# Altium schematic symbol library kmilo17pet-TI_LDO_400_7500.SchLib: 1409 symbols (part 58 of 60)
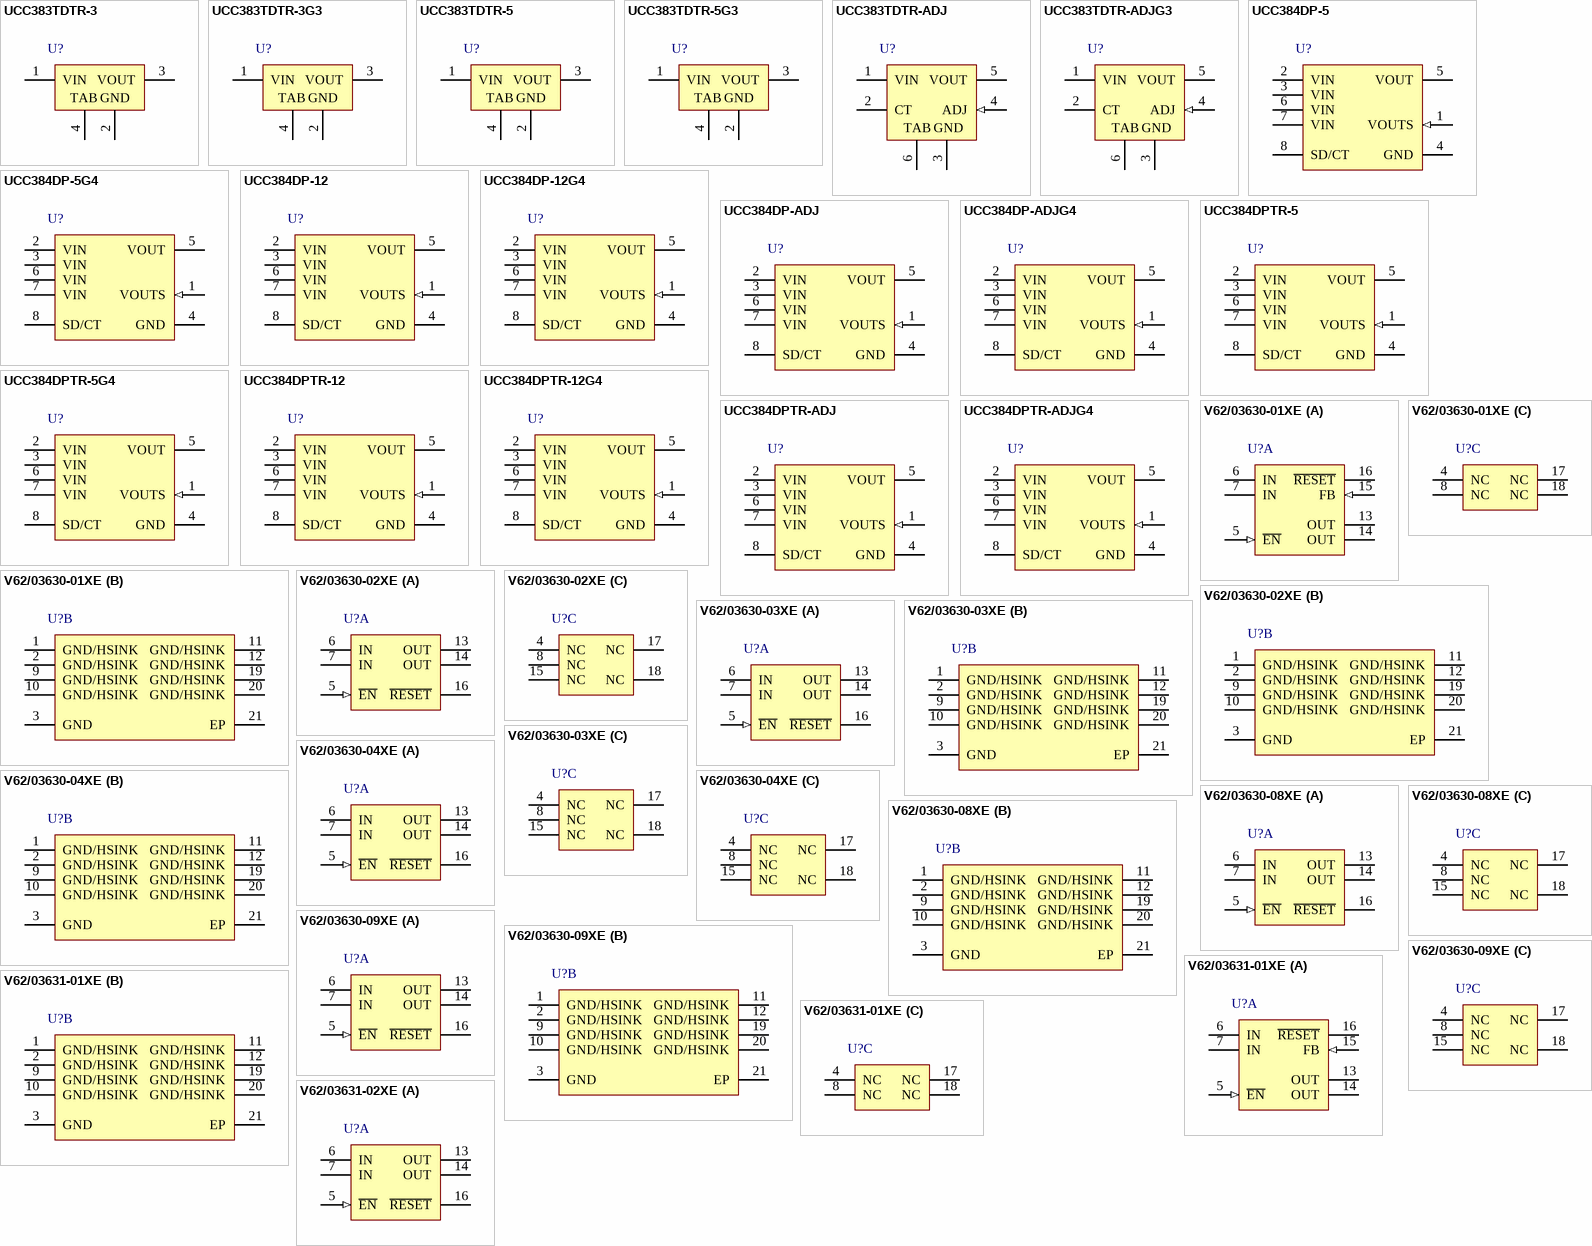
[diagram p107: symbols UCC383TDTR-3 to V62/03631-02XE]

## UCC384DP-12
designator U?
Single Output LDO, 500 mA, Fixed -12 V Output, -3.2 to -15 V Input, with Low IQ, 8-pin SOIC (D), 0 to 70 degC, Green (RoHS & no Sb/Br); Manufacturer: Texas Instruments; PartNumber: UCC384DP-12; Accuracy(%): 2.5; Iout(Max)(A): 0.5; Iq(Typ)(mA): 0.2; SubFamily: Single Channel LDO; Vdo(Typ)(mV): 150; DatasheetVersion: SLUS234D; PackageVersion: 4040047-3/M; PackageReference: D8; PackageDescription: 8-Pin Plastic Small Outline, Body 4.9 x 3.9 mm, Pitch 1.27 mm; Supplier 1: Digi-Key; Supplier Part Number 1: 296-8162-5-ND; Supplier 2: Newark; Supplier Part Number 2: 77C2505; Supplier 3: Mouser; Supplier Part Number 3: 595-UCC384DP-12; Eco-Plan: Green (RoHS & no Sb/Br); Fixed Output Options(V): -12; Vin(Max)(V): -15; Vin(Min)(V): -3.2; Vout Adj(Max)(V): -12; Vout Adj(Min)(V): -12; Mounting Technology: Surface Mount; Code_JEDEC: MS-012; ComponentLink1Description: Manufacturer URL; ComponentLink1URL: http://www.ti.com/; ComponentLink2Description: Datasheet; ComponentLink2URL: http://www.ti.com/general/docs/lit/getliterature.tsp?genericPartNumber=UCC384-12&fileType=pdf; ComponentLink3Description: Package Specification; ComponentLink3URL: http://www.ti.com/litv/pdf/msoi002j
footprint TI-D8_N (SOIC, 8-Leads, Body 4.9x3.9mm, Pitch 1.27mm, IPC Medium Density)
footprint TI-D8_L (SOIC, 8-Leads, Body 4.9x3.9mm, Pitch 1.27mm, IPC High Density)
footprint TI-D8_M (SOIC, 8-Leads, Body 4.9x3.9mm, Pitch 1.27mm, IPC Low Density)
pins: 1 VOUTS (in) "This is the feedback pin for sensing the output of the regulator. For the UCC384-5 and UCC384-12 versions, VOUTS can be connected directly to VOUT. If the load is placed at a considerable distance from the regulator, the (See Datasheet)", 2 VIN (power) "This is the negative input supply. Bypass this pin to GND with at least 1 µF of low ESR or ESL capacitance.", 3 VIN (power) "This is the negative input supply. Bypass this pin to GND with at least 1 µF of low ESR or ESL capacitance.", 4 GND (power) "This is the low noise ground reference input. All voltages are measured with respect to the GND pin.", 5 VOUT (power) "Regulated negative-output voltage. A single 4.7-µF capacitor should be connected between this pin and GND. Smaller value capacitors can be used for light loads, but this degrades the load-step performance of the regulator.", 6 VIN (power) "This is the negative input supply. Bypass this pin to GND with at least 1 µF of low ESR or ESL capacitance.", 7 VIN (power) "This is the negative input supply. Bypass this pin to GND with at least 1 µF of low ESR or ESL capacitance.", 8 SD/CT "This is the shutdown pin and also the short-circuit timing pin. Pulling this pin more positive than -0.7 V puts the circuit in a low-current shutdown mode. Placing a timing capacitor between this pin and GND sets the (See Datasheet)"

## UCC384DP-12G4
designator U?
Single Output LDO, 500 mA, Fixed -12 V Output, -3.2 to -15 V Input, with Low IQ, 8-pin SOIC (D), 0 to 70 degC, Green (RoHS & no Sb/Br); Manufacturer: Texas Instruments; PartNumber: UCC384DP-12G4; Accuracy(%): 2.5; Iout(Max)(A): 0.5; Iq(Typ)(mA): 0.2; SubFamily: Single Channel LDO; Vdo(Typ)(mV): 150; DatasheetVersion: SLUS234D; PackageVersion: 4040047-3/M; PackageReference: D8; PackageDescription: 8-Pin Plastic Small Outline, Body 4.9 x 3.9 mm, Pitch 1.27 mm; Supplier 1: Digi-Key; Supplier Part Number 1: UCC384DP-12G4-ND; Supplier 2: Mouser; Supplier Part Number 2: 595-UCC384DP-12G4; Eco-Plan: Green (RoHS & no Sb/Br); Fixed Output Options(V): -12; Vin(Max)(V): -15; Vin(Min)(V): -3.2; Vout Adj(Max)(V): -12; Vout Adj(Min)(V): -12; Mounting Technology: Surface Mount; Code_JEDEC: MS-012; ComponentLink1Description: Manufacturer URL; ComponentLink1URL: http://www.ti.com/; ComponentLink2Description: Datasheet; ComponentLink2URL: http://www.ti.com/general/docs/lit/getliterature.tsp?genericPartNumber=UCC384-12&fileType=pdf; ComponentLink3Description: Package Specification; ComponentLink3URL: http://www.ti.com/litv/pdf/msoi002j
footprint TI-D8_N (SOIC, 8-Leads, Body 4.9x3.9mm, Pitch 1.27mm, IPC Medium Density)
footprint TI-D8_L (SOIC, 8-Leads, Body 4.9x3.9mm, Pitch 1.27mm, IPC High Density)
footprint TI-D8_M (SOIC, 8-Leads, Body 4.9x3.9mm, Pitch 1.27mm, IPC Low Density)
pins: 1 VOUTS (in) "This is the feedback pin for sensing the output of the regulator. For the UCC384-5 and UCC384-12 versions, VOUTS can be connected directly to VOUT. If the load is placed at a considerable distance from the regulator, the (See Datasheet)", 2 VIN (power) "This is the negative input supply. Bypass this pin to GND with at least 1 µF of low ESR or ESL capacitance.", 3 VIN (power) "This is the negative input supply. Bypass this pin to GND with at least 1 µF of low ESR or ESL capacitance.", 4 GND (power) "This is the low noise ground reference input. All voltages are measured with respect to the GND pin.", 5 VOUT (power) "Regulated negative-output voltage. A single 4.7-µF capacitor should be connected between this pin and GND. Smaller value capacitors can be used for light loads, but this degrades the load-step performance of the regulator.", 6 VIN (power) "This is the negative input supply. Bypass this pin to GND with at least 1 µF of low ESR or ESL capacitance.", 7 VIN (power) "This is the negative input supply. Bypass this pin to GND with at least 1 µF of low ESR or ESL capacitance.", 8 SD/CT "This is the shutdown pin and also the short-circuit timing pin. Pulling this pin more positive than -0.7 V puts the circuit in a low-current shutdown mode. Placing a timing capacitor between this pin and GND sets the (See Datasheet)"

## UCC384DP-ADJ
designator U?
Single Output LDO, 500 mA, Adjustable -1.25 to -15 V Output, -3.2 to -15 V Input, with Low IQ, 8-pin SOIC (D), 0 to 70 degC, Green (RoHS & no Sb/Br); Manufacturer: Texas Instruments; PartNumber: UCC384DP-ADJ; Accuracy(%): 2.5; Iout(Max)(A): 0.5; Iq(Typ)(mA): 0.2; SubFamily: Single Channel LDO; Vdo(Typ)(mV): 250; DatasheetVersion: SLUS234D; PackageVersion: 4040047-3/M; PackageReference: D8; PackageDescription: 8-Pin Plastic Small Outline, Body 4.9 x 3.9 mm, Pitch 1.27 mm; Supplier 1: Digi-Key; Supplier Part Number 1: 296-8164-5-ND; Supplier 2: Newark; Supplier Part Number 2: 77C2504; Supplier 3: Mouser; Supplier Part Number 3: 595-UCC384DP-ADJ; Eco-Plan: Green (RoHS & no Sb/Br); Vin(Max)(V): -15; Vin(Min)(V): -3.2; Vout Adj(Max)(V): -15; Vout Adj(Min)(V): -1.25; Mounting Technology: Surface Mount; Code_JEDEC: MS-012; ComponentLink1Description: Manufacturer URL; ComponentLink1URL: http://www.ti.com/; ComponentLink2Description: Datasheet; ComponentLink2URL: http://www.ti.com/general/docs/lit/getliterature.tsp?genericPartNumber=UCC384-ADJ&fileType=pdf; ComponentLink3Description: Package Specification; ComponentLink3URL: http://www.ti.com/litv/pdf/msoi002j
footprint TI-D8_N (SOIC, 8-Leads, Body 4.9x3.9mm, Pitch 1.27mm, IPC Medium Density)
footprint TI-D8_L (SOIC, 8-Leads, Body 4.9x3.9mm, Pitch 1.27mm, IPC High Density)
footprint TI-D8_M (SOIC, 8-Leads, Body 4.9x3.9mm, Pitch 1.27mm, IPC Low Density)
pins: 1 VOUTS (in) "This is the feedback pin for sensing the output of the regulator. For the UCC384-5 and UCC384-12 versions, VOUTS can be connected directly to VOUT. If the load is placed at a considerable distance from the regulator, the (See Datasheet)", 2 VIN (power) "This is the negative input supply. Bypass this pin to GND with at least 1 µF of low ESR or ESL capacitance.", 3 VIN (power) "This is the negative input supply. Bypass this pin to GND with at least 1 µF of low ESR or ESL capacitance.", 4 GND (power) "This is the low noise ground reference input. All voltages are measured with respect to the GND pin.", 5 VOUT (power) "Regulated negative-output voltage. A single 4.7-µF capacitor should be connected between this pin and GND. Smaller value capacitors can be used for light loads, but this degrades the load-step performance of the regulator.", 6 VIN (power) "This is the negative input supply. Bypass this pin to GND with at least 1 µF of low ESR or ESL capacitance.", 7 VIN (power) "This is the negative input supply. Bypass this pin to GND with at least 1 µF of low ESR or ESL capacitance.", 8 SD/CT "This is the shutdown pin and also the short-circuit timing pin. Pulling this pin more positive than -0.7 V puts the circuit in a low-current shutdown mode. Placing a timing capacitor between this pin and GND sets the (See Datasheet)"

## UCC384DP-ADJG4
designator U?
Single Output LDO, 500 mA, Adjustable -1.25 to -15 V Output, -3.2 to -15 V Input, with Low IQ, 8-pin SOIC (D), 0 to 70 degC, Green (RoHS & no Sb/Br); Manufacturer: Texas Instruments; PartNumber: UCC384DP-ADJG4; Accuracy(%): 2.5; Iout(Max)(A): 0.5; Iq(Typ)(mA): 0.2; SubFamily: Single Channel LDO; Vdo(Typ)(mV): 250; DatasheetVersion: SLUS234D; PackageVersion: 4040047-3/M; PackageReference: D8; PackageDescription: 8-Pin Plastic Small Outline, Body 4.9 x 3.9 mm, Pitch 1.27 mm; Supplier 1: Digi-Key; Supplier Part Number 1: UCC384DP-ADJG4-ND; Supplier 2: Farnell; Supplier Part Number 2: 1207250; Supplier 3: Newark; Supplier Part Number 3: 24M8878; Supplier 4: Newark; Supplier Part Number 4: 54K2168; Supplier 5: Mouser; Supplier Part Number 5: 595-UCC384DP-ADJG4; Eco-Plan: Green (RoHS & no Sb/Br); Vin(Max)(V): -15; Vin(Min)(V): -3.2; Vout Adj(Max)(V): -15; Vout Adj(Min)(V): -1.25; Mounting Technology: Surface Mount; Code_JEDEC: MS-012; ComponentLink1Description: Manufacturer URL; ComponentLink1URL: http://www.ti.com/; ComponentLink2Description: Datasheet; ComponentLink2URL: http://www.ti.com/general/docs/lit/getliterature.tsp?genericPartNumber=UCC384-ADJ&fileType=pdf; ComponentLink3Description: Package Specification; ComponentLink3URL: http://www.ti.com/litv/pdf/msoi002j
footprint TI-D8_N (SOIC, 8-Leads, Body 4.9x3.9mm, Pitch 1.27mm, IPC Medium Density)
footprint TI-D8_L (SOIC, 8-Leads, Body 4.9x3.9mm, Pitch 1.27mm, IPC High Density)
footprint TI-D8_M (SOIC, 8-Leads, Body 4.9x3.9mm, Pitch 1.27mm, IPC Low Density)
pins: 1 VOUTS (in) "This is the feedback pin for sensing the output of the regulator. For the UCC384-5 and UCC384-12 versions, VOUTS can be connected directly to VOUT. If the load is placed at a considerable distance from the regulator, the (See Datasheet)", 2 VIN (power) "This is the negative input supply. Bypass this pin to GND with at least 1 µF of low ESR or ESL capacitance.", 3 VIN (power) "This is the negative input supply. Bypass this pin to GND with at least 1 µF of low ESR or ESL capacitance.", 4 GND (power) "This is the low noise ground reference input. All voltages are measured with respect to the GND pin.", 5 VOUT (power) "Regulated negative-output voltage. A single 4.7-µF capacitor should be connected between this pin and GND. Smaller value capacitors can be used for light loads, but this degrades the load-step performance of the regulator.", 6 VIN (power) "This is the negative input supply. Bypass this pin to GND with at least 1 µF of low ESR or ESL capacitance.", 7 VIN (power) "This is the negative input supply. Bypass this pin to GND with at least 1 µF of low ESR or ESL capacitance.", 8 SD/CT "This is the shutdown pin and also the short-circuit timing pin. Pulling this pin more positive than -0.7 V puts the circuit in a low-current shutdown mode. Placing a timing capacitor between this pin and GND sets the (See Datasheet)"

## UCC384DPTR-5
designator U?
Single Output LDO, 500 mA, Fixed -5 V Output, -3.2 to -15 V Input, with Low IQ, 8-pin SOIC (D), 0 to 70 degC, Green (RoHS & no Sb/Br); Manufacturer: Texas Instruments; PartNumber: UCC384DPTR-5; Accuracy(%): 2.5; Iout(Max)(A): 0.5; Iq(Typ)(mA): 0.2; SubFamily: Single Channel LDO; Vdo(Typ)(mV): 200; DatasheetVersion: SLUS234D; PackageVersion: 4040047-3/M; PackageReference: D8; PackageDescription: 8-Pin Plastic Small Outline, Body 4.9 x 3.9 mm, Pitch 1.27 mm; Supplier 1: Digi-Key; Supplier Part Number 1: UCC384DPTR-5-ND; Supplier 2: Newark; Supplier Part Number 2: 77C2509; Supplier 3: Mouser; Supplier Part Number 3: 595-UCC384DPTR-5; Eco-Plan: Green (RoHS & no Sb/Br); Fixed Output Options(V): -5; Vin(Max)(V): -15; Vin(Min)(V): -3.2; Vout Adj(Max)(V): -5; Vout Adj(Min)(V): -5; Mounting Technology: Surface Mount; Code_JEDEC: MS-012; ComponentLink1Description: Manufacturer URL; ComponentLink1URL: http://www.ti.com/; ComponentLink2Description: Datasheet; ComponentLink2URL: http://www.ti.com/general/docs/lit/getliterature.tsp?genericPartNumber=UCC384-5&fileType=pdf; ComponentLink3Description: Package Specification; ComponentLink3URL: http://www.ti.com/litv/pdf/msoi002j
footprint TI-D8_N (SOIC, 8-Leads, Body 4.9x3.9mm, Pitch 1.27mm, IPC Medium Density)
footprint TI-D8_L (SOIC, 8-Leads, Body 4.9x3.9mm, Pitch 1.27mm, IPC High Density)
footprint TI-D8_M (SOIC, 8-Leads, Body 4.9x3.9mm, Pitch 1.27mm, IPC Low Density)
pins: 1 VOUTS (in) "This is the feedback pin for sensing the output of the regulator. For the UCC384-5 and UCC384-12 versions, VOUTS can be connected directly to VOUT. If the load is placed at a considerable distance from the regulator, the (See Datasheet)", 2 VIN (power) "This is the negative input supply. Bypass this pin to GND with at least 1 µF of low ESR or ESL capacitance.", 3 VIN (power) "This is the negative input supply. Bypass this pin to GND with at least 1 µF of low ESR or ESL capacitance.", 4 GND (power) "This is the low noise ground reference input. All voltages are measured with respect to the GND pin.", 5 VOUT (power) "Regulated negative-output voltage. A single 4.7-µF capacitor should be connected between this pin and GND. Smaller value capacitors can be used for light loads, but this degrades the load-step performance of the regulator.", 6 VIN (power) "This is the negative input supply. Bypass this pin to GND with at least 1 µF of low ESR or ESL capacitance.", 7 VIN (power) "This is the negative input supply. Bypass this pin to GND with at least 1 µF of low ESR or ESL capacitance.", 8 SD/CT "This is the shutdown pin and also the short-circuit timing pin. Pulling this pin more positive than -0.7 V puts the circuit in a low-current shutdown mode. Placing a timing capacitor between this pin and GND sets the (See Datasheet)"

## UCC384DPTR-5G4
designator U?
Single Output LDO, 500 mA, Fixed -5 V Output, -3.2 to -15 V Input, with Low IQ, 8-pin SOIC (D), 0 to 70 degC, Green (RoHS & no Sb/Br); Manufacturer: Texas Instruments; PartNumber: UCC384DPTR-5G4; Accuracy(%): 2.5; Iout(Max)(A): 0.5; Iq(Typ)(mA): 0.2; SubFamily: Single Channel LDO; Vdo(Typ)(mV): 200; DatasheetVersion: SLUS234D; PackageVersion: 4040047-3/M; PackageReference: D8; PackageDescription: 8-Pin Plastic Small Outline, Body 4.9 x 3.9 mm, Pitch 1.27 mm; Supplier 1: Digi-Key; Supplier Part Number 1: UCC384DPTR-5G4-ND; Supplier 2: Mouser; Supplier Part Number 2: 595-UCC384DPTR-5G4; Eco-Plan: Green (RoHS & no Sb/Br); Fixed Output Options(V): -5; Vin(Max)(V): -15; Vin(Min)(V): -3.2; Vout Adj(Max)(V): -5; Vout Adj(Min)(V): -5; Mounting Technology: Surface Mount; Code_JEDEC: MS-012; ComponentLink1Description: Manufacturer URL; ComponentLink1URL: http://www.ti.com/; ComponentLink2Description: Datasheet; ComponentLink2URL: http://www.ti.com/general/docs/lit/getliterature.tsp?genericPartNumber=UCC384-5&fileType=pdf; ComponentLink3Description: Package Specification; ComponentLink3URL: http://www.ti.com/litv/pdf/msoi002j
footprint TI-D8_N (SOIC, 8-Leads, Body 4.9x3.9mm, Pitch 1.27mm, IPC Medium Density)
footprint TI-D8_L (SOIC, 8-Leads, Body 4.9x3.9mm, Pitch 1.27mm, IPC High Density)
footprint TI-D8_M (SOIC, 8-Leads, Body 4.9x3.9mm, Pitch 1.27mm, IPC Low Density)
pins: 1 VOUTS (in) "This is the feedback pin for sensing the output of the regulator. For the UCC384-5 and UCC384-12 versions, VOUTS can be connected directly to VOUT. If the load is placed at a considerable distance from the regulator, the (See Datasheet)", 2 VIN (power) "This is the negative input supply. Bypass this pin to GND with at least 1 µF of low ESR or ESL capacitance.", 3 VIN (power) "This is the negative input supply. Bypass this pin to GND with at least 1 µF of low ESR or ESL capacitance.", 4 GND (power) "This is the low noise ground reference input. All voltages are measured with respect to the GND pin.", 5 VOUT (power) "Regulated negative-output voltage. A single 4.7-µF capacitor should be connected between this pin and GND. Smaller value capacitors can be used for light loads, but this degrades the load-step performance of the regulator.", 6 VIN (power) "This is the negative input supply. Bypass this pin to GND with at least 1 µF of low ESR or ESL capacitance.", 7 VIN (power) "This is the negative input supply. Bypass this pin to GND with at least 1 µF of low ESR or ESL capacitance.", 8 SD/CT "This is the shutdown pin and also the short-circuit timing pin. Pulling this pin more positive than -0.7 V puts the circuit in a low-current shutdown mode. Placing a timing capacitor between this pin and GND sets the (See Datasheet)"

## UCC384DPTR-12
designator U?
Single Output LDO, 500 mA, Fixed -12 V Output, -3.2 to -15 V Input, with Low IQ, 8-pin SOIC (D), 0 to 70 degC, Green (RoHS & no Sb/Br); Manufacturer: Texas Instruments; PartNumber: UCC384DPTR-12; Accuracy(%): 2.5; Iout(Max)(A): 0.5; Iq(Typ)(mA): 0.2; SubFamily: Single Channel LDO; Vdo(Typ)(mV): 150; DatasheetVersion: SLUS234D; PackageVersion: 4040047-3/M; PackageReference: D8; PackageDescription: 8-Pin Plastic Small Outline, Body 4.9 x 3.9 mm, Pitch 1.27 mm; Supplier 1: Digi-Key; Supplier Part Number 1: UCC384DPTR-12-ND; Supplier 2: Mouser; Supplier Part Number 2: 595-UCC384DPTR-12; Eco-Plan: Green (RoHS & no Sb/Br); Fixed Output Options(V): -12; Vin(Max)(V): -15; Vin(Min)(V): -3.2; Vout Adj(Max)(V): -12; Vout Adj(Min)(V): -12; Mounting Technology: Surface Mount; Code_JEDEC: MS-012; ComponentLink1Description: Manufacturer URL; ComponentLink1URL: http://www.ti.com/; ComponentLink2Description: Datasheet; ComponentLink2URL: http://www.ti.com/general/docs/lit/getliterature.tsp?genericPartNumber=UCC384-12&fileType=pdf; ComponentLink3Description: Package Specification; ComponentLink3URL: http://www.ti.com/litv/pdf/msoi002j
footprint TI-D8_N (SOIC, 8-Leads, Body 4.9x3.9mm, Pitch 1.27mm, IPC Medium Density)
footprint TI-D8_L (SOIC, 8-Leads, Body 4.9x3.9mm, Pitch 1.27mm, IPC High Density)
footprint TI-D8_M (SOIC, 8-Leads, Body 4.9x3.9mm, Pitch 1.27mm, IPC Low Density)
pins: 1 VOUTS (in) "This is the feedback pin for sensing the output of the regulator. For the UCC384-5 and UCC384-12 versions, VOUTS can be connected directly to VOUT. If the load is placed at a considerable distance from the regulator, the (See Datasheet)", 2 VIN (power) "This is the negative input supply. Bypass this pin to GND with at least 1 µF of low ESR or ESL capacitance.", 3 VIN (power) "This is the negative input supply. Bypass this pin to GND with at least 1 µF of low ESR or ESL capacitance.", 4 GND (power) "This is the low noise ground reference input. All voltages are measured with respect to the GND pin.", 5 VOUT (power) "Regulated negative-output voltage. A single 4.7-µF capacitor should be connected between this pin and GND. Smaller value capacitors can be used for light loads, but this degrades the load-step performance of the regulator.", 6 VIN (power) "This is the negative input supply. Bypass this pin to GND with at least 1 µF of low ESR or ESL capacitance.", 7 VIN (power) "This is the negative input supply. Bypass this pin to GND with at least 1 µF of low ESR or ESL capacitance.", 8 SD/CT "This is the shutdown pin and also the short-circuit timing pin. Pulling this pin more positive than -0.7 V puts the circuit in a low-current shutdown mode. Placing a timing capacitor between this pin and GND sets the (See Datasheet)"

## UCC384DPTR-12G4
designator U?
Single Output LDO, 500 mA, Fixed -12 V Output, -3.2 to -15 V Input, with Low IQ, 8-pin SOIC (D), 0 to 70 degC, Green (RoHS & no Sb/Br); Manufacturer: Texas Instruments; PartNumber: UCC384DPTR-12G4; Accuracy(%): 2.5; Iout(Max)(A): 0.5; Iq(Typ)(mA): 0.2; SubFamily: Single Channel LDO; Vdo(Typ)(mV): 150; DatasheetVersion: SLUS234D; PackageVersion: 4040047-3/M; PackageReference: D8; PackageDescription: 8-Pin Plastic Small Outline, Body 4.9 x 3.9 mm, Pitch 1.27 mm; Supplier 1: Digi-Key; Supplier Part Number 1: UCC384DPTR-12G4-ND; Supplier 2: Mouser; Supplier Part Number 2: 595-UCC384DPTR-12G4; Eco-Plan: Green (RoHS & no Sb/Br); Vin(Max)(V): -15; Vin(Min)(V): -3.2; Vout Adj(Max)(V): -12; Vout Adj(Min)(V): -12; Mounting Technology: Surface Mount; Code_JEDEC: MS-012; ComponentLink1Description: Manufacturer URL; ComponentLink1URL: http://www.ti.com/; ComponentLink2Description: Datasheet; ComponentLink2URL: http://www.ti.com/general/docs/lit/getliterature.tsp?genericPartNumber=UCC384-12&fileType=pdf; ComponentLink3Description: Package Specification; ComponentLink3URL: http://www.ti.com/litv/pdf/msoi002j
footprint TI-D8_N (SOIC, 8-Leads, Body 4.9x3.9mm, Pitch 1.27mm, IPC Medium Density)
footprint TI-D8_L (SOIC, 8-Leads, Body 4.9x3.9mm, Pitch 1.27mm, IPC High Density)
footprint TI-D8_M (SOIC, 8-Leads, Body 4.9x3.9mm, Pitch 1.27mm, IPC Low Density)
pins: 1 VOUTS (in) "This is the feedback pin for sensing the output of the regulator. For the UCC384-5 and UCC384-12 versions, VOUTS can be connected directly to VOUT. If the load is placed at a considerable distance from the regulator, the (See Datasheet)", 2 VIN (power) "This is the negative input supply. Bypass this pin to GND with at least 1 µF of low ESR or ESL capacitance.", 3 VIN (power) "This is the negative input supply. Bypass this pin to GND with at least 1 µF of low ESR or ESL capacitance.", 4 GND (power) "This is the low noise ground reference input. All voltages are measured with respect to the GND pin.", 5 VOUT (power) "Regulated negative-output voltage. A single 4.7-µF capacitor should be connected between this pin and GND. Smaller value capacitors can be used for light loads, but this degrades the load-step performance of the regulator.", 6 VIN (power) "This is the negative input supply. Bypass this pin to GND with at least 1 µF of low ESR or ESL capacitance.", 7 VIN (power) "This is the negative input supply. Bypass this pin to GND with at least 1 µF of low ESR or ESL capacitance.", 8 SD/CT "This is the shutdown pin and also the short-circuit timing pin. Pulling this pin more positive than -0.7 V puts the circuit in a low-current shutdown mode. Placing a timing capacitor between this pin and GND sets the (See Datasheet)"

## UCC384DPTR-ADJ
designator U?
Single Output LDO, 500 mA, Adjustable -1.25 to -15 V Output, -3.2 to -15 V Input, with Low IQ, 8-pin SOIC (D), 0 to 70 degC, Green (RoHS & no Sb/Br); Manufacturer: Texas Instruments; PartNumber: UCC384DPTR-ADJ; Accuracy(%): 2.5; Iout(Max)(A): 0.5; Iq(Typ)(mA): 0.2; SubFamily: Single Channel LDO; Vdo(Typ)(mV): 250; DatasheetVersion: SLUS234D; PackageVersion: 4040047-3/M; PackageReference: D8; PackageDescription: 8-Pin Plastic Small Outline, Body 4.9 x 3.9 mm, Pitch 1.27 mm; Supplier 1: Digi-Key; Supplier Part Number 1: UCC384DPTR-ADJ-ND; Supplier 2: Newark; Supplier Part Number 2: 77C2507; Supplier 3: Mouser; Supplier Part Number 3: 595-UCC384DPTR-ADJ; Eco-Plan: Green (RoHS & no Sb/Br); Vin(Max)(V): -15; Vin(Min)(V): -3.2; Vout Adj(Max)(V): -15; Vout Adj(Min)(V): -1.25; Mounting Technology: Surface Mount; Code_JEDEC: MS-012; ComponentLink1Description: Manufacturer URL; ComponentLink1URL: http://www.ti.com/; ComponentLink2Description: Datasheet; ComponentLink2URL: http://www.ti.com/general/docs/lit/getliterature.tsp?genericPartNumber=UCC384-ADJ&fileType=pdf; ComponentLink3Description: Package Specification; ComponentLink3URL: http://www.ti.com/litv/pdf/msoi002j
footprint TI-D8_N (SOIC, 8-Leads, Body 4.9x3.9mm, Pitch 1.27mm, IPC Medium Density)
footprint TI-D8_L (SOIC, 8-Leads, Body 4.9x3.9mm, Pitch 1.27mm, IPC High Density)
footprint TI-D8_M (SOIC, 8-Leads, Body 4.9x3.9mm, Pitch 1.27mm, IPC Low Density)
pins: 1 VOUTS (in) "This is the feedback pin for sensing the output of the regulator. For the UCC384-5 and UCC384-12 versions, VOUTS can be connected directly to VOUT. If the load is placed at a considerable distance from the regulator, the (See Datasheet)", 2 VIN (power) "This is the negative input supply. Bypass this pin to GND with at least 1 µF of low ESR or ESL capacitance.", 3 VIN (power) "This is the negative input supply. Bypass this pin to GND with at least 1 µF of low ESR or ESL capacitance.", 4 GND (power) "This is the low noise ground reference input. All voltages are measured with respect to the GND pin.", 5 VOUT (power) "Regulated negative-output voltage. A single 4.7-µF capacitor should be connected between this pin and GND. Smaller value capacitors can be used for light loads, but this degrades the load-step performance of the regulator.", 6 VIN (power) "This is the negative input supply. Bypass this pin to GND with at least 1 µF of low ESR or ESL capacitance.", 7 VIN (power) "This is the negative input supply. Bypass this pin to GND with at least 1 µF of low ESR or ESL capacitance.", 8 SD/CT "This is the shutdown pin and also the short-circuit timing pin. Pulling this pin more positive than -0.7 V puts the circuit in a low-current shutdown mode. Placing a timing capacitor between this pin and GND sets the (See Datasheet)"

## UCC384DPTR-ADJG4
designator U?
Single Output LDO, 500 mA, Adjustable -1.25 to -15 V Output, -3.2 to -15 V Input, with Low IQ, 8-pin SOIC (D), 0 to 70 degC, Green (RoHS & no Sb/Br); Manufacturer: Texas Instruments; PartNumber: UCC384DPTR-ADJG4; Accuracy(%): 2.5; Iout(Max)(A): 0.5; Iq(Typ)(mA): 0.2; SubFamily: Single Channel LDO; Vdo(Typ)(mV): 250; DatasheetVersion: SLUS234D; PackageVersion: 4040047-3/M; PackageReference: D8; PackageDescription: 8-Pin Plastic Small Outline, Body 4.9 x 3.9 mm, Pitch 1.27 mm; Supplier 1: Digi-Key; Supplier Part Number 1: UCC384DPTR-ADJG4-ND; Supplier 2: Mouser; Supplier Part Number 2: 595-UCC384DPTR-ADJG4; Eco-Plan: Green (RoHS & no Sb/Br); Vin(Max)(V): -15; Vin(Min)(V): -3.2; Vout Adj(Max)(V): -15; Vout Adj(Min)(V): -1.25; Mounting Technology: Surface Mount; Code_JEDEC: MS-012; ComponentLink1Description: Manufacturer URL; ComponentLink1URL: http://www.ti.com/; ComponentLink2Description: Datasheet; ComponentLink2URL: http://www.ti.com/general/docs/lit/getliterature.tsp?genericPartNumber=UCC384-ADJ&fileType=pdf; ComponentLink3Description: Package Specification; ComponentLink3URL: http://www.ti.com/litv/pdf/msoi002j
footprint TI-D8_N (SOIC, 8-Leads, Body 4.9x3.9mm, Pitch 1.27mm, IPC Medium Density)
footprint TI-D8_L (SOIC, 8-Leads, Body 4.9x3.9mm, Pitch 1.27mm, IPC High Density)
footprint TI-D8_M (SOIC, 8-Leads, Body 4.9x3.9mm, Pitch 1.27mm, IPC Low Density)
pins: 1 VOUTS (in) "This is the feedback pin for sensing the output of the regulator. For the UCC384-5 and UCC384-12 versions, VOUTS can be connected directly to VOUT. If the load is placed at a considerable distance from the regulator, the (See Datasheet)", 2 VIN (power) "This is the negative input supply. Bypass this pin to GND with at least 1 µF of low ESR or ESL capacitance.", 3 VIN (power) "This is the negative input supply. Bypass this pin to GND with at least 1 µF of low ESR or ESL capacitance.", 4 GND (power) "This is the low noise ground reference input. All voltages are measured with respect to the GND pin.", 5 VOUT (power) "Regulated negative-output voltage. A single 4.7-µF capacitor should be connected between this pin and GND. Smaller value capacitors can be used for light loads, but this degrades the load-step performance of the regulator.", 6 VIN (power) "This is the negative input supply. Bypass this pin to GND with at least 1 µF of low ESR or ESL capacitance.", 7 VIN (power) "This is the negative input supply. Bypass this pin to GND with at least 1 µF of low ESR or ESL capacitance.", 8 SD/CT "This is the shutdown pin and also the short-circuit timing pin. Pulling this pin more positive than -0.7 V puts the circuit in a low-current shutdown mode. Placing a timing capacitor between this pin and GND sets the (See Datasheet)"

## V62/03630-01XE
designator U?
Single Output Low Input Voltage Requirement LDO, 1 A, Adjustable 1.5 to 5.5 V Output, 2.7 to 10 V Input, with Low IQ, 20-pin HTSSOP (PWP), -40 to 125 degC, Green (RoHS & no Sb/Br); Manufacturer: Texas Instruments; PartNumber: V62/03630-01XE; Accuracy(%): 2; Iout(Max)(A): 1; Iq(Typ)(mA): 0.08; SubFamily: Single Channel LDO; Vdo(Typ)(mV): 230; Vin(Max)(V): 10; Vin(Min)(V): 2.7; Vout Adj(Max)(V): 5.5; Vout Adj(Min)(V): 1.5; DatasheetVersion: SGLS157; PackageVersion: 4073225-4/I; PackageReference: PWP20-2980X2000TP; PackageDescription: 20-Pin Plastic Small Outline, Body 4.4 x 6.5 mm, Pitch 0.65 mm; Supplier 1: Newark; Supplier Part Number 1: 46M1447; Supplier 2: Mouser; Supplier Part Number 2: 595-V62/03630-01XE; Eco-Plan: Green (RoHS & no Sb/Br); Mounting Technology: Surface Mount; Code_JEDEC: MO-153; ComponentLink1Description: Manufacturer URL; ComponentLink1URL: http://www.ti.com/; ComponentLink2Description: Datasheet; ComponentLink2URL: http://www.ti.com/general/docs/lit/getliterature.tsp?genericPartNumber=TPS76701-EP&fileType=pdf; ComponentLink3Description: Package Specification; ComponentLink3URL: http://www.ti.com/litv/pdf/mhts001g
footprint TI-PWP20-2980X2000TP_N (SOP, 20-Leads, Body 6.5x4.4mm, Pitch 0.65mm, Thermal Pad 2.975x2 mm, IPC Medium Density)
footprint TI-PWP20-2980X2000TP_L (SOP, 20-Leads, Body 6.5x4.4mm, Pitch 0.65mm, Thermal Pad 2.975x2 mm, IPC High Density)
footprint TI-PWP20-2980X2000TP_M (SOP, 20-Leads, Body 6.5x4.4mm, Pitch 0.65mm, Thermal Pad 2.975x2 mm, IPC Low Density)
part A pins: 5 ~{EN} (in) "Enable input", 6 IN (power) "Input voltage", 7 IN (power) "Input voltage", 13 OUT (power) "Regulated output voltage", 14 OUT (power) "Regulated output voltage", 15 FB (in) "Feedback input voltage for adjustable device", 16 ~{RESET} (hiz) "R\E\S\E\T\ output."
part B pins: 1 GND/HSINK (power) "Ground/heatsink", 2 GND/HSINK (power) "Ground/heatsink", 3 GND (power) "Regulator ground", 9 GND/HSINK (power) "Ground/heatsink", 10 GND/HSINK (power) "Ground/heatsink", 11 GND/HSINK (power) "Ground/heatsink", 12 GND/HSINK (power) "Ground/heatsink", 19 GND/HSINK (power) "Ground/heatsink", 20 GND/HSINK (power) "Ground/heatsink", 21 EP "Exposed Thermal Pad"
part C pins: 4 NC "No connect", 8 NC "No connect", 17 NC "No connect", 18 NC "No connect"

## V62/03630-02XE
designator U?
Single Output Low Input Voltage Requirement LDO, 1 A, Fixed 1.5 V Output, 2.7 to 10 V Input, with Low IQ, 20-pin HTSSOP (PWP), -40 to 125 degC, Green (RoHS & no Sb/Br); Manufacturer: Texas Instruments; PartNumber: V62/03630-02XE; Accuracy(%): 2; Fixed Output Options(V): 1.5; Iout(Max)(A): 1; Iq(Typ)(mA): 0.08; SubFamily: Single Channel LDO; Vdo(Typ)(mV): 230; Vin(Max)(V): 10; Vin(Min)(V): 2.7; DatasheetVersion: SGLS157; PackageVersion: 4073225-4/I; PackageReference: PWP20-2980X2000TP; PackageDescription: 20-Pin Plastic Small Outline, Body 4.4 x 6.5 mm, Pitch 0.65 mm; Supplier 1: Newark; Supplier Part Number 1: 46M1448; Supplier 2: Mouser; Supplier Part Number 2: 595-V62/03630-02XE; Eco-Plan: Green (RoHS & no Sb/Br); Vout Adj(Max)(V): 1.5; Vout Adj(Min)(V): 1.5; Mounting Technology: Surface Mount; Code_JEDEC: MO-153; ComponentLink1Description: Manufacturer URL; ComponentLink1URL: http://www.ti.com/; ComponentLink2Description: Datasheet; ComponentLink2URL: http://www.ti.com/general/docs/lit/getliterature.tsp?genericPartNumber=TPS76715-EP&fileType=pdf; ComponentLink3Description: Package Specification; ComponentLink3URL: http://www.ti.com/litv/pdf/mhts001g
footprint TI-PWP20-2980X2000TP_N (SOP, 20-Leads, Body 6.5x4.4mm, Pitch 0.65mm, Thermal Pad 2.975x2 mm, IPC Medium Density)
footprint TI-PWP20-2980X2000TP_L (SOP, 20-Leads, Body 6.5x4.4mm, Pitch 0.65mm, Thermal Pad 2.975x2 mm, IPC High Density)
footprint TI-PWP20-2980X2000TP_M (SOP, 20-Leads, Body 6.5x4.4mm, Pitch 0.65mm, Thermal Pad 2.975x2 mm, IPC Low Density)
part A pins: 5 ~{EN} (in) "Enable input", 6 IN (power) "Input voltage", 7 IN (power) "Input voltage", 13 OUT (power) "Regulated output voltage", 14 OUT (power) "Regulated output voltage", 16 ~{RESET} (hiz) "R\E\S\E\T\ output."
part B pins: 1 GND/HSINK (power) "Ground/heatsink", 2 GND/HSINK (power) "Ground/heatsink", 3 GND (power) "Regulator ground", 9 GND/HSINK (power) "Ground/heatsink", 10 GND/HSINK (power) "Ground/heatsink", 11 GND/HSINK (power) "Ground/heatsink", 12 GND/HSINK (power) "Ground/heatsink", 19 GND/HSINK (power) "Ground/heatsink", 20 GND/HSINK (power) "Ground/heatsink", 21 EP "Exposed Thermal Pad"
part C pins: 4 NC "No connect", 8 NC "No connect", 15 NC "No connect", 17 NC "No connect", 18 NC "No connect"

## V62/03630-03XE
designator U?
Single Output Low Input Voltage Requirement LDO, 1 A, Fixed 1.8 V Output, 2.7 to 10 V Input, with Low IQ, 20-pin HTSSOP (PWP), -40 to 125 degC, Green (RoHS & no Sb/Br); Manufacturer: Texas Instruments; PartNumber: V62/03630-03XE; Accuracy(%): 2; Fixed Output Options(V): 1.8; Iout(Max)(A): 1; Iq(Typ)(mA): 0.08; SubFamily: Single Channel LDO; Vdo(Typ)(mV): 230; Vin(Max)(V): 10; Vin(Min)(V): 2.7; DatasheetVersion: SGLS157; PackageVersion: 4073225-4/I; PackageReference: PWP20-2980X2000TP; PackageDescription: 20-Pin Plastic Small Outline, Body 4.4 x 6.5 mm, Pitch 0.65 mm; Supplier 1: Newark; Supplier Part Number 1: 46M1449; Supplier 2: Mouser; Supplier Part Number 2: 595-V62/03630-03XE; Eco-Plan: Green (RoHS & no Sb/Br); Vout Adj(Max)(V): 1.8; Vout Adj(Min)(V): 1.8; Mounting Technology: Surface Mount; Code_JEDEC: MO-153; ComponentLink1Description: Manufacturer URL; ComponentLink1URL: http://www.ti.com/; ComponentLink2Description: Datasheet; ComponentLink2URL: http://www.ti.com/general/docs/lit/getliterature.tsp?genericPartNumber=TPS76718-EP&fileType=pdf; ComponentLink3Description: Package Specification; ComponentLink3URL: http://www.ti.com/litv/pdf/mhts001g
footprint TI-PWP20-2980X2000TP_N (SOP, 20-Leads, Body 6.5x4.4mm, Pitch 0.65mm, Thermal Pad 2.975x2 mm, IPC Medium Density)
footprint TI-PWP20-2980X2000TP_L (SOP, 20-Leads, Body 6.5x4.4mm, Pitch 0.65mm, Thermal Pad 2.975x2 mm, IPC High Density)
footprint TI-PWP20-2980X2000TP_M (SOP, 20-Leads, Body 6.5x4.4mm, Pitch 0.65mm, Thermal Pad 2.975x2 mm, IPC Low Density)
part A pins: 5 ~{EN} (in) "Enable input", 6 IN (power) "Input voltage", 7 IN (power) "Input voltage", 13 OUT (power) "Regulated output voltage", 14 OUT (power) "Regulated output voltage", 16 ~{RESET} (hiz) "R\E\S\E\T\ output."
part B pins: 1 GND/HSINK (power) "Ground/heatsink", 2 GND/HSINK (power) "Ground/heatsink", 3 GND (power) "Regulator ground", 9 GND/HSINK (power) "Ground/heatsink", 10 GND/HSINK (power) "Ground/heatsink", 11 GND/HSINK (power) "Ground/heatsink", 12 GND/HSINK (power) "Ground/heatsink", 19 GND/HSINK (power) "Ground/heatsink", 20 GND/HSINK (power) "Ground/heatsink", 21 EP "Exposed Thermal Pad"
part C pins: 4 NC "No connect", 8 NC "No connect", 15 NC "No connect", 17 NC "No connect", 18 NC "No connect"

## V62/03630-04XE
designator U?
Single Output Fast Transient Response LDO, 1 A, Fixed 2.5 V Output, 2.7 to 10 V Input, 20-pin HTSSOP (PWP), -40 to 125 degC, Green (RoHS & no Sb/Br); Manufacturer: Texas Instruments; PartNumber: V62/03630-04XE; Accuracy(%): 2; Fixed Output Options(V): 2.5; Iout(Max)(A): 1; Iq(Typ)(mA): 0.08; SubFamily: Single Channel LDO; Vdo(Typ)(mV): 230; Vin(Max)(V): 10; Vin(Min)(V): 2.7; DatasheetVersion: SGLS157; PackageVersion: 4073225-4/I; PackageReference: PWP20-2980X2000TP; PackageDescription: 20-Pin Plastic Small Outline, Body 4.4 x 6.5 mm, Pitch 0.65 mm; Supplier 1: Newark; Supplier Part Number 1: 46M1450; Supplier 2: Mouser; Supplier Part Number 2: 595-V62/03630-04XE; Eco-Plan: Green (RoHS & no Sb/Br); Vout Adj(Max)(V): 2.5; Vout Adj(Min)(V): 2.5; Mounting Technology: Surface Mount; Code_JEDEC: MO-153; ComponentLink1Description: Manufacturer URL; ComponentLink1URL: http://www.ti.com/; ComponentLink2Description: Datasheet; ComponentLink2URL: http://www.ti.com/general/docs/lit/getliterature.tsp?genericPartNumber=TPS76725-EP&fileType=pdf; ComponentLink3Description: Package Specification; ComponentLink3URL: http://www.ti.com/litv/pdf/mhts001g
footprint TI-PWP20-2980X2000TP_N (SOP, 20-Leads, Body 6.5x4.4mm, Pitch 0.65mm, Thermal Pad 2.975x2 mm, IPC Medium Density)
footprint TI-PWP20-2980X2000TP_L (SOP, 20-Leads, Body 6.5x4.4mm, Pitch 0.65mm, Thermal Pad 2.975x2 mm, IPC High Density)
footprint TI-PWP20-2980X2000TP_M (SOP, 20-Leads, Body 6.5x4.4mm, Pitch 0.65mm, Thermal Pad 2.975x2 mm, IPC Low Density)
part A pins: 5 ~{EN} (in) "Enable input", 6 IN (power) "Input voltage", 7 IN (power) "Input voltage", 13 OUT (power) "Regulated output voltage", 14 OUT (power) "Regulated output voltage", 16 ~{RESET} (hiz) "R\E\S\E\T\ output."
part B pins: 1 GND/HSINK (power) "Ground/heatsink", 2 GND/HSINK (power) "Ground/heatsink", 3 GND (power) "Regulator ground", 9 GND/HSINK (power) "Ground/heatsink", 10 GND/HSINK (power) "Ground/heatsink", 11 GND/HSINK (power) "Ground/heatsink", 12 GND/HSINK (power) "Ground/heatsink", 19 GND/HSINK (power) "Ground/heatsink", 20 GND/HSINK (power) "Ground/heatsink", 21 EP "Exposed Thermal Pad"
part C pins: 4 NC "No connect", 8 NC "No connect", 15 NC "No connect", 17 NC "No connect", 18 NC "No connect"

## V62/03630-08XE
designator U?
Single Output Fast Transient Response LDO, 1 A, Fixed 3.3 V Output, 2.7 to 10 V Input, 20-pin HTSSOP (PWP), -40 to 125 degC, Green (RoHS & no Sb/Br); Manufacturer: Texas Instruments; PartNumber: V62/03630-08XE; Accuracy(%): 2; Fixed Output Options(V): 3.3; Iout(Max)(A): 1; Iq(Typ)(mA): 0.08; SubFamily: Single Channel LDO; Vdo(Typ)(mV): 350; Vin(Max)(V): 10; Vin(Min)(V): 2.7; DatasheetVersion: SGLS157; PackageVersion: 4073225-4/I; PackageReference: PWP20-2980X2000TP; PackageDescription: 20-Pin Plastic Small Outline, Body 4.4 x 6.5 mm, Pitch 0.65 mm; Supplier 1: Mouser; Supplier Part Number 1: 595-V62/03630-08XE; Eco-Plan: Green (RoHS & no Sb/Br); Vout Adj(Max)(V): 3.3; Vout Adj(Min)(V): 3.3; Mounting Technology: Surface Mount; Code_JEDEC: MO-153; ComponentLink1Description: Manufacturer URL; ComponentLink1URL: http://www.ti.com/; ComponentLink2Description: Datasheet; ComponentLink2URL: http://www.ti.com/general/docs/lit/getliterature.tsp?genericPartNumber=TPS76733-EP&fileType=pdf; ComponentLink3Description: Package Specification; ComponentLink3URL: http://www.ti.com/litv/pdf/mhts001g
footprint TI-PWP20-2980X2000TP_N (SOP, 20-Leads, Body 6.5x4.4mm, Pitch 0.65mm, Thermal Pad 2.975x2 mm, IPC Medium Density)
footprint TI-PWP20-2980X2000TP_L (SOP, 20-Leads, Body 6.5x4.4mm, Pitch 0.65mm, Thermal Pad 2.975x2 mm, IPC High Density)
footprint TI-PWP20-2980X2000TP_M (SOP, 20-Leads, Body 6.5x4.4mm, Pitch 0.65mm, Thermal Pad 2.975x2 mm, IPC Low Density)
part A pins: 5 ~{EN} (in) "Enable input", 6 IN (power) "Input voltage", 7 IN (power) "Input voltage", 13 OUT (power) "Regulated output voltage", 14 OUT (power) "Regulated output voltage", 16 ~{RESET} (hiz) "R\E\S\E\T\ output."
part B pins: 1 GND/HSINK (power) "Ground/heatsink", 2 GND/HSINK (power) "Ground/heatsink", 3 GND (power) "Regulator ground", 9 GND/HSINK (power) "Ground/heatsink", 10 GND/HSINK (power) "Ground/heatsink", 11 GND/HSINK (power) "Ground/heatsink", 12 GND/HSINK (power) "Ground/heatsink", 19 GND/HSINK (power) "Ground/heatsink", 20 GND/HSINK (power) "Ground/heatsink", 21 EP "Exposed Thermal Pad"
part C pins: 4 NC "No connect", 8 NC "No connect", 15 NC "No connect", 17 NC "No connect", 18 NC "No connect"

## V62/03630-09XE
designator U?
Single Output Fast Transient Response LDO, 1 A, Fixed 5 V Output, 2.7 to 10 V Input, 20-pin HTSSOP (PWP), -40 to 125 degC, Green (RoHS & no Sb/Br); Manufacturer: Texas Instruments; PartNumber: V62/03630-09XE; Accuracy(%): 2; Fixed Output Options(V): 5; Iout(Max)(A): 1; Iq(Typ)(mA): 0.08; SubFamily: Single Channel LDO; Vdo(Typ)(mV): 230; Vin(Max)(V): 10; Vin(Min)(V): 2.7; DatasheetVersion: SGLS157; PackageVersion: 4073225-4/I; PackageReference: PWP20-2980X2000TP; PackageDescription: 20-Pin Plastic Small Outline, Body 4.4 x 6.5 mm, Pitch 0.65 mm; Supplier 1: Newark; Supplier Part Number 1: 46M1452; Supplier 2: Mouser; Supplier Part Number 2: 595-V62/03630-09XE; Eco-Plan: Green (RoHS & no Sb/Br); Vout Adj(Max)(V): 5; Vout Adj(Min)(V): 5; Mounting Technology: Surface Mount; Code_JEDEC: MO-153; ComponentLink1Description: Manufacturer URL; ComponentLink1URL: http://www.ti.com/; ComponentLink2Description: Datasheet; ComponentLink2URL: http://www.ti.com/general/docs/lit/getliterature.tsp?genericPartNumber=TPS76750-EP&fileType=pdf; ComponentLink3Description: Package Specification; ComponentLink3URL: http://www.ti.com/litv/pdf/mhts001g
footprint TI-PWP20-2980X2000TP_N (SOP, 20-Leads, Body 6.5x4.4mm, Pitch 0.65mm, Thermal Pad 2.975x2 mm, IPC Medium Density)
footprint TI-PWP20-2980X2000TP_L (SOP, 20-Leads, Body 6.5x4.4mm, Pitch 0.65mm, Thermal Pad 2.975x2 mm, IPC High Density)
footprint TI-PWP20-2980X2000TP_M (SOP, 20-Leads, Body 6.5x4.4mm, Pitch 0.65mm, Thermal Pad 2.975x2 mm, IPC Low Density)
part A pins: 5 ~{EN} (in) "Enable input", 6 IN (power) "Input voltage", 7 IN (power) "Input voltage", 13 OUT (power) "Regulated output voltage", 14 OUT (power) "Regulated output voltage", 16 ~{RESET} (hiz) "R\E\S\E\T\ output."
part B pins: 1 GND/HSINK (power) "Ground/heatsink", 2 GND/HSINK (power) "Ground/heatsink", 3 GND (power) "Regulator ground", 9 GND/HSINK (power) "Ground/heatsink", 10 GND/HSINK (power) "Ground/heatsink", 11 GND/HSINK (power) "Ground/heatsink", 12 GND/HSINK (power) "Ground/heatsink", 19 GND/HSINK (power) "Ground/heatsink", 20 GND/HSINK (power) "Ground/heatsink", 21 EP "Exposed Thermal Pad"
part C pins: 4 NC "No connect", 8 NC "No connect", 15 NC "No connect", 17 NC "No connect", 18 NC "No connect"

## V62/03631-01XE
designator U?
Single Output Fast Transient Response LDO, 500 mA, Adjustable 1.5 to 5.5 V Output, 2.7 to 10 V Input, 20-pin HTSSOP (PWP), -55 to 125 degC, Green (RoHS & no Sb/Br); Manufacturer: Texas Instruments; PartNumber: V62/03631-01XE; Accuracy(%): 2; Iout(Max)(A): 0.5; Iq(Typ)(mA): 0.08; SubFamily: Single Channel LDO; Vdo(Typ)(mV): 169; Vin(Max)(V): 10; Vin(Min)(V): 2.7; Vout Adj(Max)(V): 5.5; Vout Adj(Min)(V): 1.5; DatasheetVersion: SGLS010B; PackageVersion: 4073225-4/I; PackageReference: PWP20-2980X2000TP; PackageDescription: 20-Pin Plastic Small Outline, Body 4.4 x 6.5 mm, Pitch 0.65 mm; Supplier 1: Newark; Supplier Part Number 1: 46M1453; Supplier 2: Mouser; Supplier Part Number 2: 595-V62/03631-01XE; Eco-Plan: Green (RoHS & no Sb/Br); Mounting Technology: Surface Mount; Code_JEDEC: MO-153; ComponentLink1Description: Manufacturer URL; ComponentLink1URL: http://www.ti.com/; ComponentLink2Description: Datasheet; ComponentLink2URL: http://www.ti.com/general/docs/lit/getliterature.tsp?genericPartNumber=TPS77501-EP&fileType=pdf; ComponentLink3Description: Package Specification; ComponentLink3URL: http://www.ti.com/litv/pdf/mhts001g
footprint TI-PWP20-2980X2000TP_N (SOP, 20-Leads, Body 6.5x4.4mm, Pitch 0.65mm, Thermal Pad 2.975x2 mm, IPC Medium Density)
footprint TI-PWP20-2980X2000TP_L (SOP, 20-Leads, Body 6.5x4.4mm, Pitch 0.65mm, Thermal Pad 2.975x2 mm, IPC High Density)
footprint TI-PWP20-2980X2000TP_M (SOP, 20-Leads, Body 6.5x4.4mm, Pitch 0.65mm, Thermal Pad 2.975x2 mm, IPC Low Density)
part A pins: 5 ~{EN} (in) "Enable input", 6 IN (power) "Input voltage", 7 IN (power) "Input voltage", 13 OUT (power) "Regulated output voltage", 14 OUT (power) "Regulated output voltage", 15 FB (in) "Feedback input voltage for adjustable device", 16 ~{RESET} (hiz) "R\E\S\E\T\ output."
part B pins: 1 GND/HSINK (power) "Ground/heatsink", 2 GND/HSINK (power) "Ground/heatsink", 3 GND (power) "Regulator ground", 9 GND/HSINK (power) "Ground/heatsink", 10 GND/HSINK (power) "Ground/heatsink", 11 GND/HSINK (power) "Ground/heatsink", 12 GND/HSINK (power) "Ground/heatsink", 19 GND/HSINK (power) "Ground/heatsink", 20 GND/HSINK (power) "Ground/heatsink", 21 EP "Exposed Thermal Pad"
part C pins: 4 NC "No connect", 8 NC "No connect", 17 NC "No connect", 18 NC "No connect"

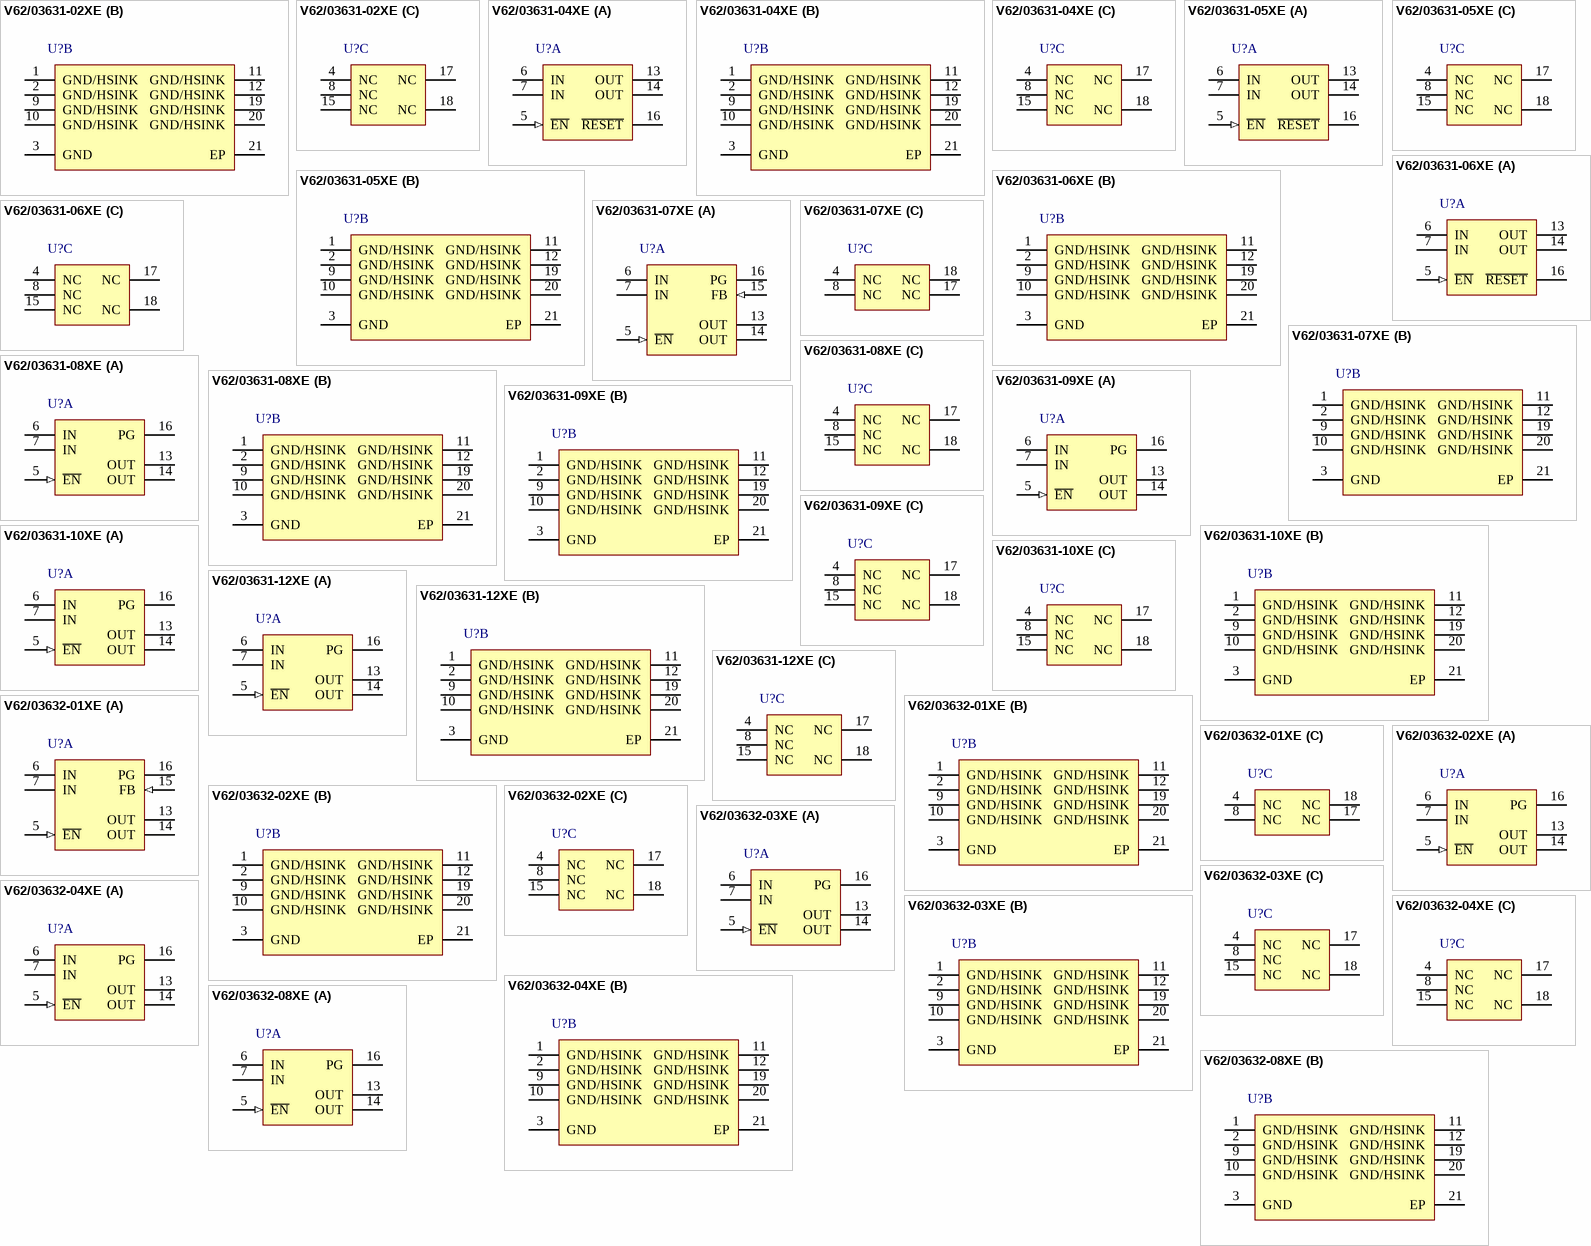
[diagram p48: symbols V62/03631-02XE to V62/03632-08XE]

## V62/03631-02XE
designator U?
Single Output Fast Transient Response LDO, 500 mA, Fixed 1.5 V Output, 2.7 to 10 V Input, 20-pin HTSSOP (PWP), -55 to 125 degC, Green (RoHS & no Sb/Br); Manufacturer: Texas Instruments; PartNumber: V62/03631-02XE; Accuracy(%): 2; Fixed Output Options(V): 1.5; Iout(Max)(A): 0.5; Iq(Typ)(mA): 0.08; SubFamily: Single Channel LDO; Vdo(Typ)(mV): 169; Vin(Max)(V): 10; Vin(Min)(V): 2.7; DatasheetVersion: SGLS010B; PackageVersion: 4073225-4/I; PackageReference: PWP20-2980X2000TP; PackageDescription: 20-Pin Plastic Small Outline, Body 4.4 x 6.5 mm, Pitch 0.65 mm; Supplier 1: Newark; Supplier Part Number 1: 46M1454; Supplier 2: Mouser; Supplier Part Number 2: 595-V62/03631-02XE; Eco-Plan: Green (RoHS & no Sb/Br); Vout Adj(Max)(V): 1.5; Vout Adj(Min)(V): 1.5; Mounting Technology: Surface Mount; Code_JEDEC: MO-153; ComponentLink1Description: Manufacturer URL; ComponentLink1URL: http://www.ti.com/; ComponentLink2Description: Datasheet; ComponentLink2URL: http://www.ti.com/general/docs/lit/getliterature.tsp?genericPartNumber=TPS77515-EP&fileType=pdf; ComponentLink3Description: Package Specification; ComponentLink3URL: http://www.ti.com/litv/pdf/mhts001g
footprint TI-PWP20-2980X2000TP_N (SOP, 20-Leads, Body 6.5x4.4mm, Pitch 0.65mm, Thermal Pad 2.975x2 mm, IPC Medium Density)
footprint TI-PWP20-2980X2000TP_L (SOP, 20-Leads, Body 6.5x4.4mm, Pitch 0.65mm, Thermal Pad 2.975x2 mm, IPC High Density)
footprint TI-PWP20-2980X2000TP_M (SOP, 20-Leads, Body 6.5x4.4mm, Pitch 0.65mm, Thermal Pad 2.975x2 mm, IPC Low Density)
part A pins: 5 ~{EN} (in) "Enable input", 6 IN (power) "Input voltage", 7 IN (power) "Input voltage", 13 OUT (power) "Regulated output voltage", 14 OUT (power) "Regulated output voltage", 16 ~{RESET} (hiz) "R\E\S\E\T\ output."
part B pins: 1 GND/HSINK (power) "Ground/heatsink", 2 GND/HSINK (power) "Ground/heatsink", 3 GND (power) "Regulator ground", 9 GND/HSINK (power) "Ground/heatsink", 10 GND/HSINK (power) "Ground/heatsink", 11 GND/HSINK (power) "Ground/heatsink", 12 GND/HSINK (power) "Ground/heatsink", 19 GND/HSINK (power) "Ground/heatsink", 20 GND/HSINK (power) "Ground/heatsink", 21 EP "Exposed Thermal Pad"
part C pins: 4 NC "No connect", 8 NC "No connect", 15 NC "No connect", 17 NC "No connect", 18 NC "No connect"

## V62/03631-04XE
designator U?
Single Output Fast Transient Response LDO, 500 mA, Fixed 1.8 V Output, 2.7 to 10 V Input, 20-pin HTSSOP (PWP), -55 to 125 degC, Green (RoHS & no Sb/Br); Manufacturer: Texas Instruments; PartNumber: V62/03631-04XE; Accuracy(%): 2; Fixed Output Options(V): 1.8; Iout(Max)(A): 0.5; Iq(Typ)(mA): 0.08; SubFamily: Single Channel LDO; Vdo(Typ)(mV): 169; Vin(Max)(V): 10; Vin(Min)(V): 2.7; DatasheetVersion: SGLS010B; PackageVersion: 4073225-4/I; PackageReference: PWP20-2980X2000TP; PackageDescription: 20-Pin Plastic Small Outline, Body 4.4 x 6.5 mm, Pitch 0.65 mm; Supplier 1: Newark; Supplier Part Number 1: 46M1455; Supplier 2: Mouser; Supplier Part Number 2: 595-V62/03631-04XE; Eco-Plan: Green (RoHS & no Sb/Br); Vout Adj(Max)(V): 1.8; Vout Adj(Min)(V): 1.8; Mounting Technology: Surface Mount; Code_JEDEC: MO-153; ComponentLink1Description: Manufacturer URL; ComponentLink1URL: http://www.ti.com/; ComponentLink2Description: Datasheet; ComponentLink2URL: http://www.ti.com/general/docs/lit/getliterature.tsp?genericPartNumber=TPS77518-EP&fileType=pdf; ComponentLink3Description: Package Specification; ComponentLink3URL: http://www.ti.com/litv/pdf/mhts001g
footprint TI-PWP20-2980X2000TP_N (SOP, 20-Leads, Body 6.5x4.4mm, Pitch 0.65mm, Thermal Pad 2.975x2 mm, IPC Medium Density)
footprint TI-PWP20-2980X2000TP_L (SOP, 20-Leads, Body 6.5x4.4mm, Pitch 0.65mm, Thermal Pad 2.975x2 mm, IPC High Density)
footprint TI-PWP20-2980X2000TP_M (SOP, 20-Leads, Body 6.5x4.4mm, Pitch 0.65mm, Thermal Pad 2.975x2 mm, IPC Low Density)
part A pins: 5 ~{EN} (in) "Enable input", 6 IN (power) "Input voltage", 7 IN (power) "Input voltage", 13 OUT (power) "Regulated output voltage", 14 OUT (power) "Regulated output voltage", 16 ~{RESET} (hiz) "R\E\S\E\T\ output."
part B pins: 1 GND/HSINK (power) "Ground/heatsink", 2 GND/HSINK (power) "Ground/heatsink", 3 GND (power) "Regulator ground", 9 GND/HSINK (power) "Ground/heatsink", 10 GND/HSINK (power) "Ground/heatsink", 11 GND/HSINK (power) "Ground/heatsink", 12 GND/HSINK (power) "Ground/heatsink", 19 GND/HSINK (power) "Ground/heatsink", 20 GND/HSINK (power) "Ground/heatsink", 21 EP "Exposed Thermal Pad"
part C pins: 4 NC "No connect", 8 NC "No connect", 15 NC "No connect", 17 NC "No connect", 18 NC "No connect"